# Altium footprint library HZK_Connectors.PcbLib: 26 footprints (part 2 of 2)
Each footprint in its own frame and in the unit in brackets; x right, y up, seen from the top. Pads: shape width x height; smd on the part's side, far side on the other; paste and mask are expansions set on the pad; w line width, h text height; cw(c..) or ccw(c..) is an arc to the next point about the centre after c.
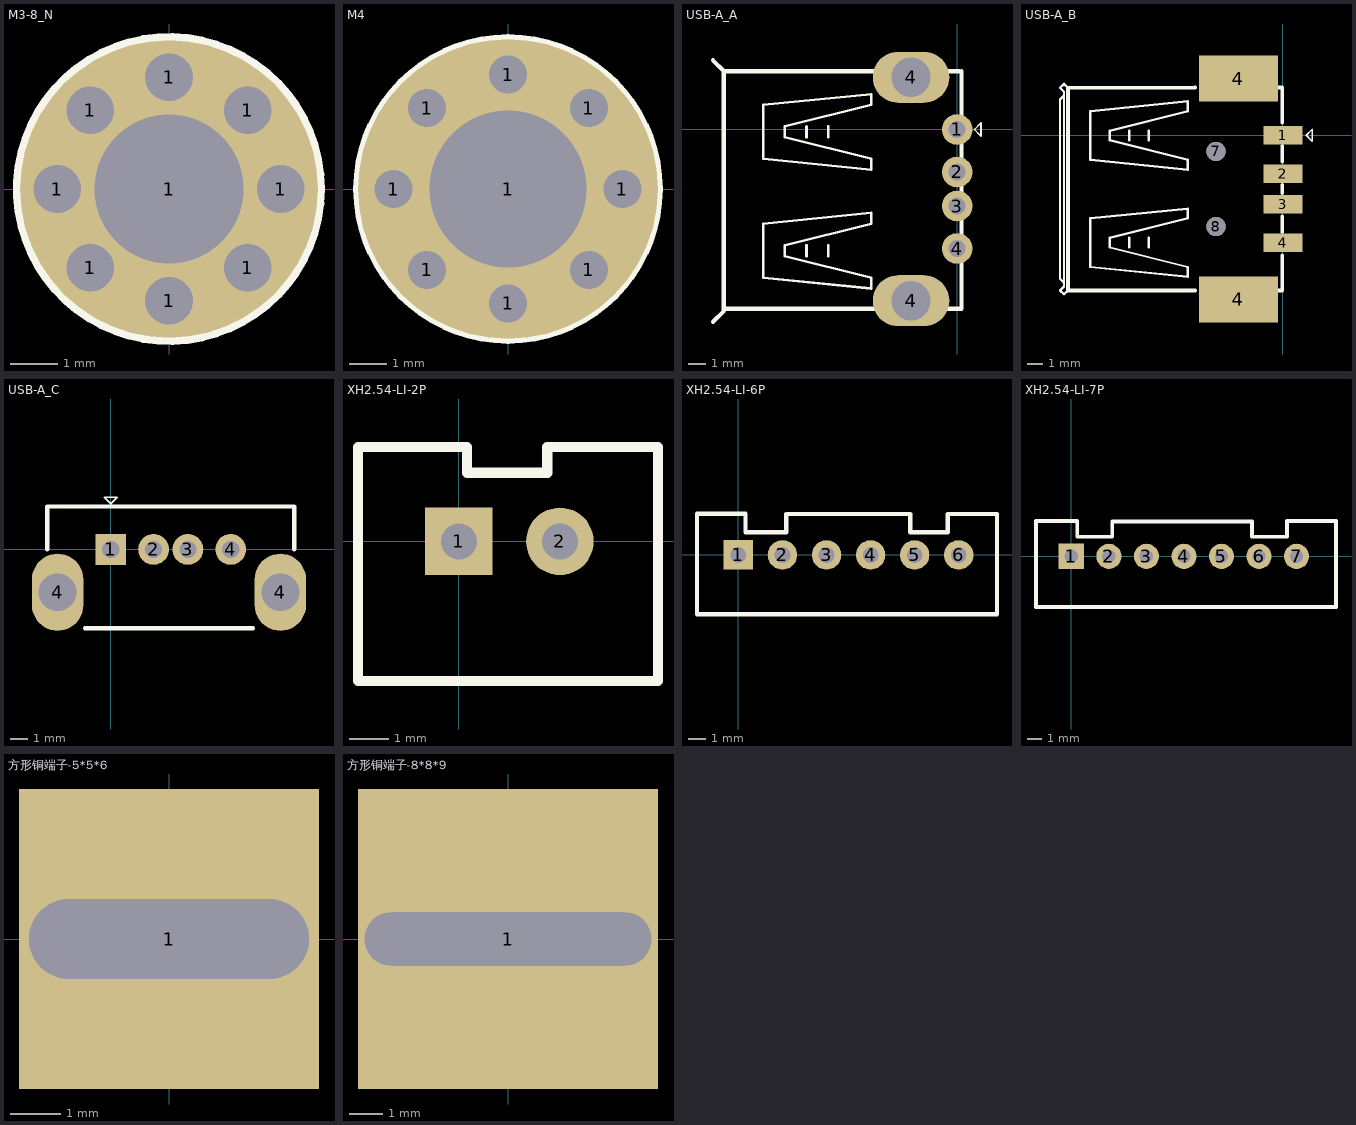
[diagram p1: the footprints below, top view; thin cyan lines are the x and y axes]

## M3-8_N [mil] "M3铜柱，长：8mm"
pads (9):
  round 40 hole 40: 1(-93.75,0) 1(-66.29,-66.29) 1(-66.29,66.29) 1(0,-93.75) 1(0,93.75) 1(66.29,-66.29) 1(66.29,66.29) 1(93.75,0)
  round 250 hole 125: 1(0,0)
Top Overlay:
  circle w10: c0,0 r125.98
3D body "M3螺丝.STEP": height 102.36, standoff -78.74, extent -108.27,-108.27 108.27,108.27
3D body "M3x8.STEP": height -17.71, standoff -332.68, extent -106.22,-92.52 106.23,92.52

## M4 [mil] "M4螺丝，外径8mm"
pads (9):
  round 40 hole 40: 1(-120.08,0) 1(-84.91,-84.91) 1(-84.91,84.91) 1(0,-120.08) 1(0,120.08) 1(84.91,-84.91) 1(84.91,84.91) 1(120.08,0)
  round 314.96 hole 165.35: 1(0,0)
Top Overlay:
  circle w10: c0,0 r157.48

## USB-A_A [mm] "A型卧式直插"
pads (6):
  round 1.8 hole 1: 1(0,0) 2(0,-2.5) 3(0,-4.5) 4(0,-7)
  oval 4.5x3 hole 2.3: 4(-2.71,-10.07) 4(-2.71,3.07)
Top Overlay:
  lines w0.1: 1.016,0 1.397,-0.381 1.397,0.381 1.016,0
  lines w0.152: -8.86,-7.444 -8.86,-6.809 ; -8.86,-0.459 -8.86,0.176 ; -7.59,-7.444 -7.59,-6.809 ; -7.59,-0.459 -7.59,0.176 ; -11.4,-8.714 -5.05,-9.349 -5.05,-8.714 -10.13,-7.444 -10.13,-6.809 -5.05,-5.539 -5.05,-4.904 -11.4,-5.539 -11.4,-8.714 ; -11.4,-1.729 -5.05,-2.364 -5.05,-1.729 -10.13,-0.459 -10.13,0.176 -5.05,1.446 -5.05,2.081 -11.4,1.446 -11.4,-1.729
  lines w0.254: -14.351,-11.303 -13.716,-10.668 -13.716,-10.541 ; -14.351,4.064 -13.716,3.429 ; 0.127,3.429 -13.716,3.429 ; 0.254,3.429 0.254,-10.541 -13.716,-10.541 ; -13.716,-10.541 -13.716,3.429
3D body "Samtec-USBR-A-S-S-O-TH.STEP": height 7.55, standoff -3.3, extent -13.06,-11.38 1.1,4.42

## USB-A_B [mm] "A型贴片"
pads (8):
  rect 2.54x1.219 smd: 1(0,0) 2(0,-2.5) 3(0,-4.5) 4(0,-7)
  rect 5.15x3 smd: 4(-2.9,-10.7) 4(-2.9,3.7)
  round 1.25 hole 1.25 unplated: 7(-4.354,-1.05) 8(-4.354,-5.95)
Top Overlay:
  lines w0.1: 1.524,0 1.905,0.381 1.905,-0.381 1.524,0
  lines w0.152: -14.006,-10.111 -14.26,-10.365 -14.514,-10.111 -14.26,-9.857 -14.26,-9.603 ; -14.006,3.097 -14.26,3.351 -14.514,3.097 -14.26,2.843 -14.26,2.589 ; -10.003,-7.317 -10.003,-6.682 ; -10.003,-0.332 -10.003,0.303 ; -8.733,-7.317 -8.733,-6.682 ; -8.733,-0.332 -8.733,0.303 ; -14.26,-9.603 -14.52,-9.349 -14.52,2.335 -14.26,2.589 ; -14.26,-9.603 -14.26,2.589 ; -12.543,-8.587 -6.193,-9.222 -6.193,-8.587 -11.273,-7.317 -11.273,-6.682 -6.193,-5.412 -6.193,-4.777 -12.543,-5.412 -12.543,-8.587 ; -12.543,-1.602 -6.193,-2.237 -6.193,-1.602 -11.273,-0.332 -11.273,0.303 -6.193,1.573 -6.193,2.208 -12.543,1.573 -12.543,-1.602
  lines w0.254: -5.715,-10.104 -14.006,-10.111 -14.006,3.097 -5.715,3.104 ; -0.255,-10.108 -0.036,-10.111 -0.036,-7.818 ; -0.254,3.104 -0.036,3.104 -0.036,0.818 ; -0.036,-6.294 -0.036,-5.278 ; -0.036,-3.754 -0.036,-3.246 ; -0.036,-1.722 -0.036,-0.706
3D body "USB A型 ?": height 7.4, standoff -0.55, extent -14.254,-11.25 0.446,4.25

## USB-A_C [mm] "A型立式直插"
pads (6):
  rect 1.8x1.8 hole 1: 1(0,0)
  round 1.8 hole 1: 2(2.5,0) 3(4.5,0) 4(7,0)
  oval 3x4.5 hole 2.2: 4(-3.1,-2.5) 4(9.9,-2.5)
Top Overlay:
  lines w0.1: -0.381,3.048 0.381,3.048 0,2.667 -0.381,3.048
  lines w0.254: -3.7,0 -3.7,2.5 10.7,2.5 10.7,0 ; -1.5,-4.6 8.3,-4.6
Mechanical 1:
  lines w0.254: -0.2,-0.2 cw(c0,-0.2) 0,0
3D body "USB-H.stp": height 14, standoff -4, extent -3.705,-4.599 10.695,2.501

## XH2.54-LI-2P [mm] "接插件，2P"
pads (2):
  rect 1.7x1.7 hole 0.9: 1(0,0)
  round 1.7 hole 0.9: 2(2.54,0)
Top Overlay:
  lines w0.254: -2.537,-3.505 5.006,-3.505 5.006,2.37 4.224,2.37 2.223,2.37 2.223,1.727 0.203,1.727 0.203,2.37 -2.537,2.37 -2.537,-3.505
3D body "XH2.54-2P.STEP": height 7.05, standoff -2.45, extent -2.5,-3.3 5.04,2.4

## XH2.54-LI-6P [mm] "接插件，6P"
pads (6):
  rect 1.7x1.7 hole 0.9: 1(0,0)
  round 1.7 hole 0.9: 2(2.54,0) 3(5.08,0) 4(7.62,0) 5(10.16,0) 6(12.7,0)
Top Overlay:
  lines w0.254: -2.388,-3.429 14.91,-3.429 14.91,2.362 12.065,2.362 12.065,1.321 9.906,1.321 9.906,2.362 2.769,2.362 2.769,1.321 0.406,1.321 0.406,2.388 -2.388,2.388 -2.388,-3.429
3D body "XH2.54-6P.STEP": height 7.03, standoff -2.47, extent -2.5,-3.3 15.2,2.4

## XH2.54-LI-7P [mm] "接插件，7P"
pads (7):
  rect 1.7x1.7 hole 0.9: 1(0,0)
  round 1.7 hole 0.9: 2(2.54,0) 3(5.08,0) 4(7.62,0) 5(10.16,0) 6(12.7,0) 7(15.24,0)
Top Overlay:
  lines w0.254: -2.388,-3.429 14.91,-3.429 17.907,-3.429 17.907,2.388 14.594,2.388 14.594,1.321 12.231,1.321 12.231,2.362 9.906,2.362 2.769,2.362 2.769,1.321 0.406,1.321 0.406,2.388 -2.388,2.388 -2.388,-3.429
3D body "XH2.54-7P.STEP": height 7.05, standoff -2.45, extent -2.5,-3.302 17.74,2.398

## 方形铜端子-5*5*6 [mm]
pads (1):
  rect 6x6 hole 1.6 slot 5.6 at 0 deg: 1(0,0)

## 方形铜端子-8*8*9 [mm]
pads (1):
  rect 9x9 hole 1.6 slot 8.6 at 0 deg: 1(0,0)